# Altium schematic symbol library Carte_Nucleo.SCHLIB: 37 symbols
Pins are listed as number, name and electrical type; pins without a type are passive.

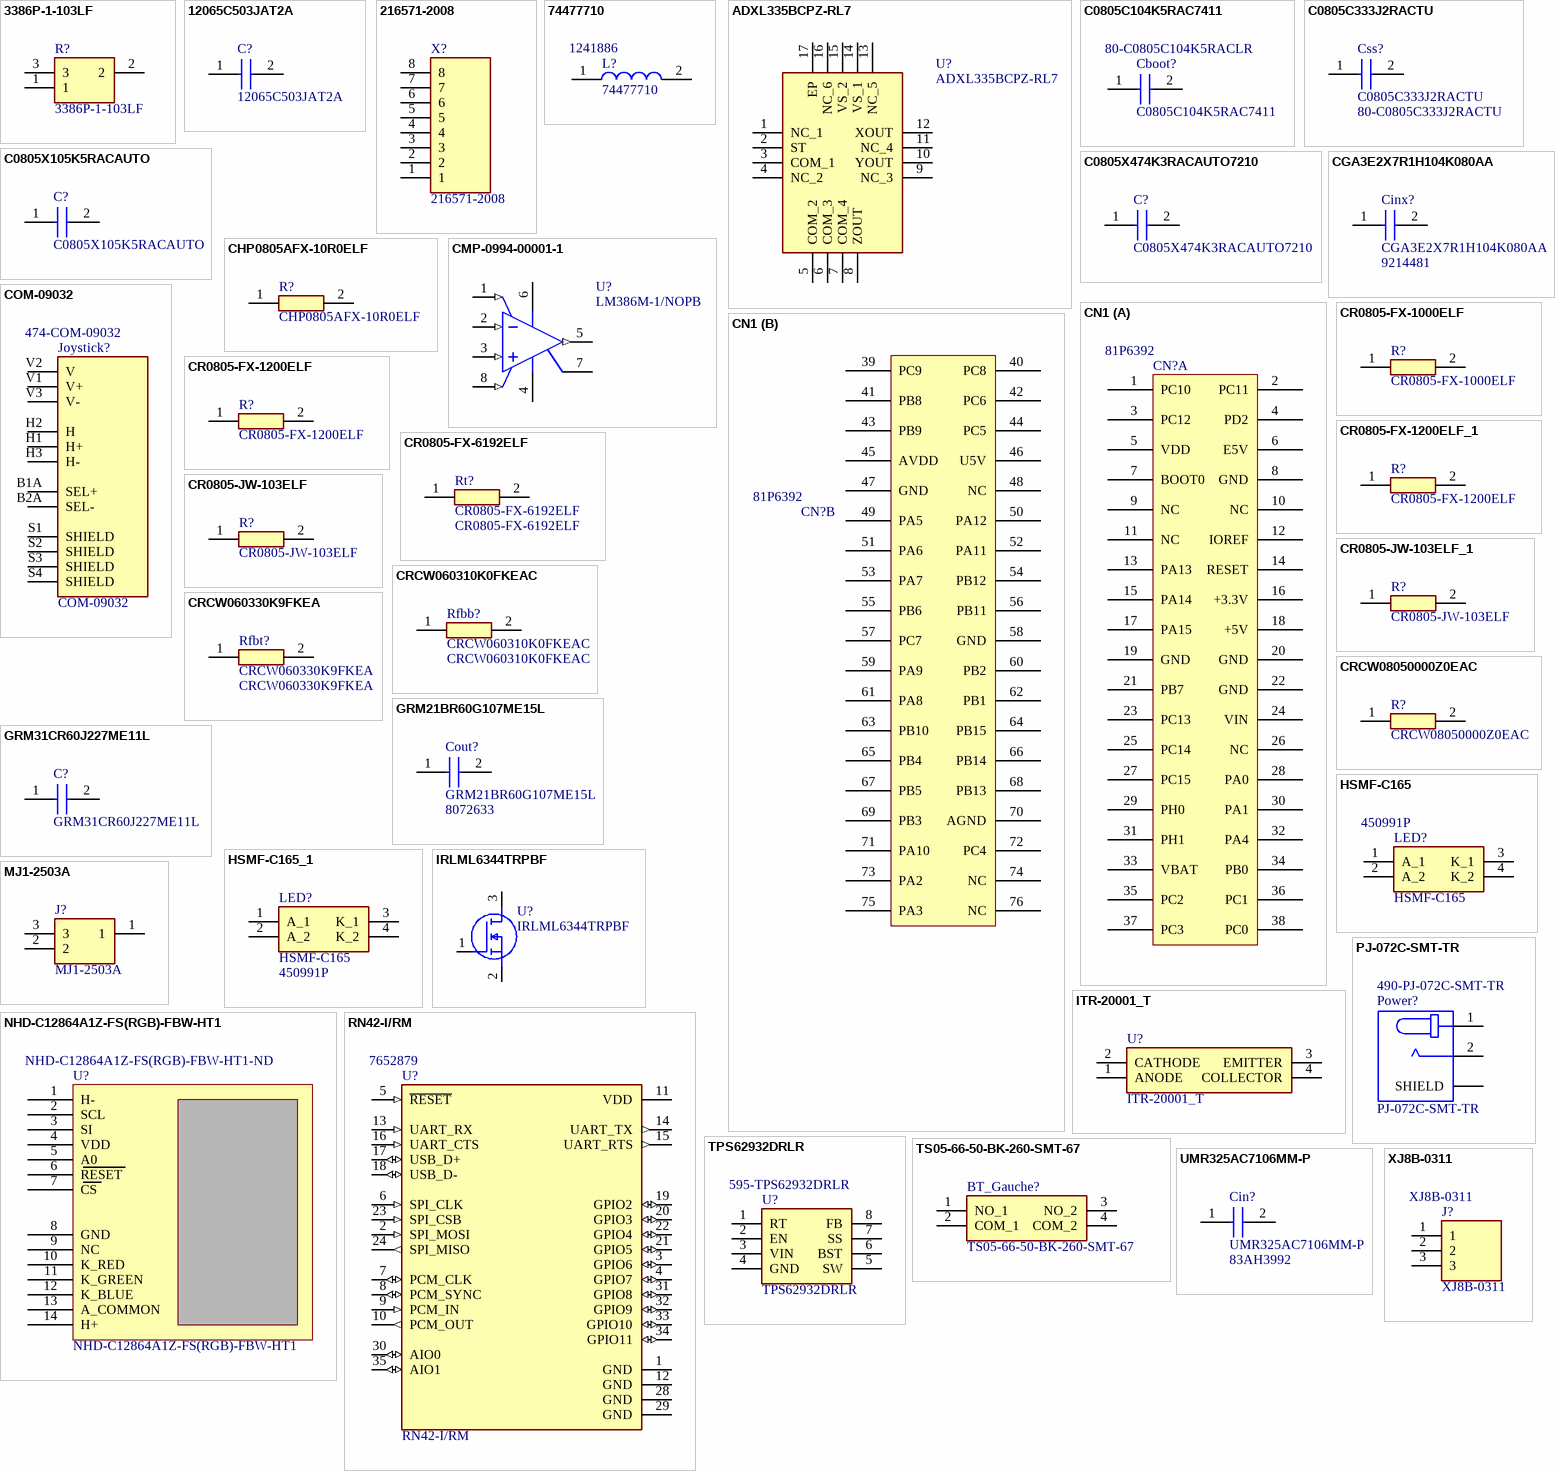
[diagram p0: symbols 3386P-1-103LF to XJ8B-0311]

## 3386P-1-103LF
designator R?
Resistor; Manufacturer_Name: Bourns; Datasheet Link: https://componentsearchengine.com//3386P-1-103LF.pdf; Mouser2 Part Number: 652-3386P-1-103LF; Mouser2 Price/Stock: https://www.mouser.com/Search/Refine.aspx?Keyword=652-3386P-1-103LF; Manufacturer_Part_Number: 3386P-1-103LF
footprint 3386P_1
pins: 1, 2, 3

## 12065C503JAT2A
designator C?
Capacitor; Manufacturer_Name: AVX; Manufacturer_Part_Number: 12065C503JAT2A
footprint CAPC3216X94N
pins: 1 C1, 2 C2

## 216571-2008
designator X?
Connector; Manufacturer_Name: Molex; Datasheet Link: https://www.molex.com/pdm_docs/sd/2165711002_sd.pdf; Height: 9.91mm; Manufacturer_Part_Number: 216571-2008
footprint 216571-YY08
pins: 1, 2, 3, 4, 5, 6, 7, 8

## 74477710
designator L?  Supplier Part Number 1: 1241886
Supplier 1: RSComponents
footprint 74477710
pins: 1, 2

## ADXL335BCPZ-RL7
designator U?
Integrated Circuit; Manufacturer_Name: Analog Devices; Datasheet Link: https://componentsearchengine.com//ADXL335BCPZ-RL7.pdf; Height: 1.5mm; Mouser2 Part Number: 584-ADXL335BCPZ-R7; Mouser2 Price/Stock: https://www.mouser.com/Search/Refine.aspx?Keyword=584-ADXL335BCPZ-R7; Manufacturer_Part_Number: ADXL335BCPZ-RL7
footprint QFN65P400X400X150-17N-D
pins: 1 NC_1, 2 ST, 3 COM_1, 4 NC_2, 5 COM_2, 6 COM_3, 7 COM_4, 8 ZOUT, 9 NC_3, 10 YOUT, 11 NC_4, 12 XOUT, 13 NC_5, 14 VS_1, 15 VS_2, 16 NC_6, 17 EP

## C0805C104K5RAC7411
designator Cboot?  Supplier Part Number 1: 80-C0805C104K5RACLR
Multilayer Ceramic Capacitors MLCC - SMD/SMT 50V 0.1uF X7R 0805 10%; Manufacturer_Name: KEMET; Datasheet Link: https://componentsearchengine.com//C0805C104K5RAC7411.pdf; Height: 0.88mm; Mouser2 Part Number: 80-C0805C104K5RACLR; Mouser2 Price/Stock: https://www.mouser.com/Search/Refine.aspx?Keyword=80-C0805C104K5RACLR; Manufacturer_Part_Number: C0805C104K5RAC7411; Supplier 1: Mouser
footprint CAPC2012X88N
pins: 1, 2

## C0805C333J2RACTU
designator Css?  Supplier Part Number 1: 80-C0805C333J2RACTU
Multilayer Ceramic Capacitors MLCC - SMD/SMT 200V 0.033uF X7R 0805 5%; Manufacturer_Name: KEMET; Datasheet Link: https://content.kemet.com/datasheets/KEM_C1002_X7R_SMD.pdf; Height: 1.1mm; Manufacturer_Part_Number: C0805C333J2RACTU; Supplier 1: Mouser
footprint C0805
pins: 1, 2

## C0805X105K5RACAUTO
designator C?
Capacitor; Manufacturer_Name: KEMET; Datasheet Link: https://connect.kemet.com:7667/gateway/IntelliData-ComponentDocumentation/1.0/download/specsheet/C0805X105K5RACAUTO; Height: 1.45mm; Manufacturer_Part_Number: C0805X105K5RACAUTO
footprint CAPC2012X145N
pins: 1, 2

## C0805X474K3RACAUTO7210
designator C?
Capacitor; Manufacturer_Name: KEMET; Datasheet Link: https://content.kemet.com/datasheets/KEM_C1078_X7R_FT-CAP_AUTO_SMD.pdf; Height: 1.1mm; Manufacturer_Part_Number: C0805X474K3RACAUTO7210
footprint C0805
pins: 1, 2

## CGA3E2X7R1H104K080AA
designator Cinx?  Supplier Part Number 1: 9214481
Capacitor 0603 100nF; Manufacturer_Name: TDK; Datasheet Link: https://componentsearchengine.com//CGA3E2X7R1H104K080AA.pdf; Height: 0.9mm; Mouser2 Part Number: 810-CGA3E2X7R1H104K; Mouser2 Price/Stock: https://www.mouser.com/Search/Refine.aspx?Keyword=810-CGA3E2X7R1H104K; Manufacturer_Part_Number: CGA3E2X7R1H104K080AA; Supplier 1: RSComponents
footprint CAPC1608X90N
pins: 1, 2

## CHP0805AFX-10R0ELF
designator R?
Resistor; Manufacturer_Name: Bourns; Datasheet Link: https://www.mouser.co.uk/datasheet/2/54/chp-a-1858677.pdf; Height: 0.6mm; Manufacturer_Part_Number: CHP0805AFX-10R0ELF
footprint RESC2012X60N
pins: 1, 2

## CMP-0994-00001-1
designator U?, comment LM386M-1/NOPB
Low Voltage Audio Power Amplifier, 0 to 70 degC, 8-pin SOIC (D8), Green (RoHS & no Sb/Br); Manufacturer: Texas Instruments; Manufacturer: TI National Semiconductor; Input Type: Analog; SubFamily: Mid/High-Power Amplifier; Max. Number of Speaker Outputs: 1; PackageVersion: 4040047-3/M, 06/2011; ComponentLink2Description: Datasheet; DatasheetVersion: SNAS545A; ComponentLink3URL: http://www.ti.com/litv/pdf/msoi002j; ComponentLink1URL: http://www.ti.com/; Mounting Technology: Surface Mount; Eco-Plan: Green (RoHS & no Sb/Br); ComponentLink3Description: Package Specification; ComponentLink2URL: http://www.ti.com/general/docs/lit/getliterature.tsp?genericPartNumber=LM386&fileType=pdf; PartNumber: LM386M-1/NOPB; PackageDescription: 8-Pin Plastic Small Outline, Body 4.9 x 3.9 mm, Pitch 1.27 mm; ComponentLink1Description: Manufacturer URL; Code_JEDEC: MS-012; PackageReference: D8; Manufacturer Part Number: LM386M-1/NOPB
footprint TI-D8_M (SOIC, 8-Leads, Body 5x4mm, Pitch 1.27mm, IPC Low Density)
footprint TI-D8_N (SOIC, 8-Leads, Body 5x4mm, Pitch 1.27mm, IPC Medium Density)
footprint TI-D8_L (SOIC, 8-Leads, Body 5x4mm, Pitch 1.27mm, IPC High Density)
pins: 1 GAIN (in), 2 IN- (in), 3 IN+ (in), 4 GND (power), 5 VOUT (out), 6 VS (power), 7 BYPASS, 8 GAIN (in)

## CN1
designator CN?  Supplier Part Number 1: 81P6392
Headers & Wire Housings Surface Mount PCB Socket Strips, 0.100 pitch; Supplier 1: Newark
footprint Nucleo-conn-SMD - sans 3D (Interface Nucleo morpho connectors)
part A pins: 1 PC10, 2 PC11, 3 PC12, 4 PD2, 5 VDD, 6 E5V, 7 BOOT0, 8 GND, 9 NC, 10 NC, 11 NC, 12 IOREF, 13 PA13, 14 RESET, 15 PA14, 16 +3.3V, 17 PA15, 18 +5V, 19 GND, 20 GND, 21 PB7, 22 GND, 23 PC13, 24 VIN, 25 PC14, 26 NC, 27 PC15, 28 PA0, 29 PH0, 30 PA1, 31 PH1, 32 PA4, 33 VBAT, 34 PB0, 35 PC2, 36 PC1, 37 PC3, 38 PC0
part B pins: 39 PC9, 40 PC8, 41 PB8, 42 PC6, 43 PB9, 44 PC5, 45 AVDD, 46 U5V, 47 GND, 48 NC, 49 PA5, 50 PA12, 51 PA6, 52 PA11, 53 PA7, 54 PB12, 55 PB6, 56 PB11, 57 PC7, 58 GND, 59 PA9, 60 PB2, 61 PA8, 62 PB1, 63 PB10, 64 PB15, 65 PB4, 66 PB14, 67 PB5, 68 PB13, 69 PB3, 70 AGND, 71 PA10, 72 PC4, 73 PA2, 74 NC, 75 PA3, 76 NC

## COM-09032
designator Joystick?  Supplier Part Number 1: 474-COM-09032
Thumb Joystick; Price: None; Package: None; Availability: Unavailable; MP: COM-09032; Value: *; Supplier 1: Mouser
footprint XDCR_COM-09032
pins: B1A SEL+, B2A SEL-, H1 H+, H2 H, H3 H-, S1 SHIELD, S2 SHIELD, S3 SHIELD, S4 SHIELD, V1 V+, V2 V, V3 V-

## CR0805-FX-1000ELF
designator R?
Resistor; Manufacturer_Name: Bourns; Datasheet Link: https://www.bourns.com/pdfs/chpreztr.pdf; Height: 0.6mm; Manufacturer_Part_Number: CR0805-FX-1000ELF
footprint RESC2012X60N
pins: 1, 2

## CR0805-FX-1200ELF
designator R?
Res Thick Film 0805 120 Ohm 1% 1/8W ±100ppm/°C Molded SMD SMD Paper Tape on Plastic Reel; Datasheet Link: https://www.bourns.com/pdfs/chpreztr.pdf; Height: 0.6mm; Supplier 1: Arrow Electronics; Supplier Part Number 1: CR0805-FX-1200ELF
footprint RESC2012X60N
pins: 1, 2

## CR0805-FX-1200ELF_1
designator R?, comment CR0805-FX-1200ELF
Resistor; Manufacturer_Name: Bourns; Datasheet Link: https://www.bourns.com/pdfs/chpreztr.pdf; Height: 0.6mm; Manufacturer_Part_Number: CR0805-FX-1200ELF
footprint RESC2012X60N
pins: 1, 2

## CR0805-FX-6192ELF
designator Rt?
Resistor 0805 61.9kOhm; Manufacturer_Name: Bourns; Datasheet Link: https://www.bourns.com/pdfs/chpreztr.pdf; Height: 0.6mm; Manufacturer_Part_Number: CR0805-FX-6192ELF; Supplier 1: Avnet; Supplier Part Number 1: CR0805-FX-6192ELF
footprint RESC2012X60N
pins: 1, 2

## CR0805-JW-103ELF
designator R?
BOURNS         CR0805-JW-103ELF            Surface Mount Chip Resistor, Thick Film, CR Series, 10 kohm, 125 mW,  5%, 150 V; Datasheet Link: https://componentsearchengine.com//CR0805-JW-103ELF.pdf; Height: 0.6mm; Supplier 1: Arrow Electronics; Supplier Part Number 1: CR0805-JW-103ELF
footprint RESC2012X60N
pins: 1, 2

## CR0805-JW-103ELF_1
designator R?, comment CR0805-JW-103ELF
Resistor; Manufacturer_Name: Bourns; Datasheet Link: https://componentsearchengine.com//CR0805-JW-103ELF.pdf; Height: 0.6mm; Mouser2 Part Number: 652-CR0805-JW-103ELF; Mouser2 Price/Stock: https://www.mouser.com/Search/Refine.aspx?Keyword=652-CR0805-JW-103ELF; Manufacturer_Part_Number: CR0805-JW-103ELF
footprint RESC2012X60N
pins: 1, 2

## CRCW060310K0FKEAC
designator Rfbb?
Res Thick Film 0603 10K Ohm 1% 1/10W ±100ppm/°C Molded SMD Paper T/R; Manufacturer_Name: Vishay; Datasheet Link: https://componentsearchengine.com//CRCW060310K0FKEAC.pdf; Height: 0.55mm; Mouser2 Part Number: 71-CRCW060310K0FKEAC; Mouser2 Price/Stock: https://www.mouser.com/Search/Refine.aspx?Keyword=71-CRCW060310K0FKEAC; Manufacturer_Part_Number: CRCW060310K0FKEAC; Supplier 1: Arrow Electronics; Supplier Part Number 1: CRCW060310K0FKEAC
footprint RESC1608X55N
pins: 1, 2

## CRCW060330K9FKEA
designator Rfbt?
Res Thick Film 0603 30.9K Ohm 1% 1/10W ±100ppm/°C Molded SMD SMD Paper T/R; Manufacturer_Name: Vishay; Datasheet Link: http://www.vishay.com/docs/20035/dcrcwe3.pdf; Height: 0.5mm; Manufacturer_Part_Number: CRCW060330K9FKEA; Supplier 1: Arrow Electronics; Supplier Part Number 1: CRCW060330K9FKEA
footprint RESC1608X50N
pins: 1, 2

## CRCW08050000Z0EAC
designator R?
Resistor; Manufacturer_Name: Vishay; Datasheet Link: https://componentsearchengine.com//CRCW08050000Z0EAC.pdf; Height: 0.6mm; Mouser2 Part Number: 71-CRCW08050000Z0EAC; Mouser2 Price/Stock: https://www.mouser.com/Search/Refine.aspx?Keyword=71-CRCW08050000Z0EAC; Manufacturer_Part_Number: CRCW08050000Z0EAC
footprint RESC2012X60N
pins: 1, 2

## GRM21BR60G107ME15L
designator Cout?  Supplier Part Number 1: 8072633
0805 100 uF 4 V ±20% Tolerance X5R Multilayer Ceramic Chip Capacitor; Manufacturer_Name: Murata Electronics; Datasheet Link: https://datasheet.datasheetarchive.com/originals/distributors/DKDS-10/192999.pdf; Height: 1.45mm; Manufacturer_Part_Number: GRM21BR60G107ME15L; Supplier 1: Future Electronics
footprint CAPC2012X145N
pins: 1, 2

## GRM31CR60J227ME11L
designator C?
Capacitor; Manufacturer_Name: Murata Electronics; Datasheet Link: https://www.murata.com/products/productdetail?partno=GRM31CR60J227ME11%23; Height: 1.9mm; Manufacturer_Part_Number: GRM31CR60J227ME11L
footprint CAPC3216X190N
pins: 1, 2

## HSMF-C165
designator LED?  Supplier Part Number 1: 450991P
Standard LEDs - SMD Grn/Red Bi-Color; Manufacturer_Name: Avago Technologies; Datasheet Link: https://componentsearchengine.com//HSMF-C165.pdf; Mouser2 Part Number: 630-HSMF-C165; Mouser2 Price/Stock: https://www.mouser.com/Search/Refine.aspx?Keyword=630-HSMF-C165; Manufacturer_Part_Number: HSMF-C165; Supplier 1: RSComponents
footprint HSMF-C163
pins: 1 A_1, 2 A_2, 3 K_1, 4 K_2

## HSMF-C165_1
designator LED?, comment HSMF-C165  Supplier Part Number 1: 450991P
LED Bi-Color Green/Red 570nm/636nm 4-Pin Chip 0603 T/R; Manufacturer_Name: Avago Technologies; Datasheet Link: https://componentsearchengine.com//HSMF-C165.pdf; Mouser2 Part Number: 630-HSMF-C165; Mouser2 Price/Stock: https://www.mouser.com/Search/Refine.aspx?Keyword=630-HSMF-C165; Manufacturer_Part_Number: HSMF-C165; Supplier 1: RSComponents
footprint HSMF-C163
pins: 1 A_1, 2 A_2, 3 K_1, 4 K_2

## IRLML6344TRPBF
designator U?
MOSFET (N-Channel); Manufacturer_Name: Infineon; Datasheet Link: https://componentsearchengine.com//IRLML6344TRPBF.pdf; Height: 1.12mm; Mouser2 Part Number: 942-IRLML6344TRPBF; Mouser2 Price/Stock: https://www.mouser.com/Search/Refine.aspx?Keyword=942-IRLML6344TRPBF; Manufacturer_Part_Number: IRLML6344TRPBF
footprint SOT95P237X112-3N
pins: 1 G, 2 S, 3 D

## ITR-20001_T
designator U?
Undefined or Miscellaneous; Manufacturer_Name: Everlight; Manufacturer_Part_Number: ITR-20001/T; Height: 6.8mm
footprint ITR20001T
pins: 1 ANODE, 2 CATHODE, 3 EMITTER, 4 COLLECTOR

## MJ1-2503A
designator J?
Connector; Manufacturer_Name: CUI Inc.; Datasheet Link: https://componentsearchengine.com//MJ1-2503A.pdf; Height: 5mm; Mouser2 Part Number: 490-MJ1-2503A; Mouser2 Price/Stock: https://www.mouser.com/Search/Refine.aspx?Keyword=490-MJ1-2503A; Manufacturer_Part_Number: MJ1-2503A
footprint MJ12503A
pins: 1, 2, 3

## NHD-C12864A1Z-FS(RGB)-FBW-HT1
designator U?  Supplier Part Number 1: NHD-C12864A1Z-FS(RGB)-FBW-HT1-ND
LCD COG GRAPH 128X64 RGB BKLT; Supplier 1: Digi-Key
footprint NHD-C12864A1Z-FS(RGB)-FBW-HT1
pins: 1 H-, 2 SCL, 3 SI, 4 VDD, 5 A0, 6 RESET, 7 CS, 8 GND, 9 NC, 10 K_RED, 11 K_GREEN, 12 K_BLUE, 13 A_COMMON, 14 H+

## PJ-072C-SMT-TR
designator Power?  Supplier Part Number 1: 490-PJ-072C-SMT-TR
1.0 x 3.6 mm, 2.0 A, Horizontal, Surface Mount (SMT), Shielded, Dc Power Jack Connector; Supplier 1: Mouser
footprint PJ-072C-SMT-TR
pins: 1, 2, 3 SHIELD, 4 SHIELD

## RN42-I/RM
designator U?  Supplier Part Number 1: 7652879
Bluetooth Bluetooth v2.1 +EDR, Class 2 Transceiver Module 2.4GHz Integrated, Trace Surface Mount; MF: Microchip; Value: *; Price: None; MP: RN42-I/RM; Availability: Unavailable; SnapEDA_Link: https://www.snapeda.com/parts/RN42-I/RM/Microchip/view-part/625546/?ref=snap; Package: SMD-35 Roving Networks; Supplier 1: RSComponents
footprint XCVR_RN42-I/RM
pins: 1 GND (power), 2 SPI_MOSI (in), 3 GPIO6 (io), 4 GPIO7 (io), 5 ~{RESET} (in), 6 SPI_CLK (in), 7 PCM_CLK (io), 8 PCM_SYNC (io), 9 PCM_IN (in), 10 PCM_OUT (out), 11 VDD (power), 12 GND (power), 13 UART_RX (in), 14 UART_TX (out), 15 UART_RTS (out), 16 UART_CTS (in), 17 USB_D+ (io), 18 USB_D- (io), 19 GPIO2 (io), 20 GPIO3 (io), 21 GPIO5 (io), 22 GPIO4 (io), 23 SPI_CSB (in), 24 SPI_MISO (out), 28 GND (power), 29 GND (power), 30 AIO0 (io), 31 GPIO8 (io), 32 GPIO9 (io), 33 GPIO10 (io), 34 GPIO11 (io), 35 AIO1 (io)

## TPS62932DRLR
designator U?  Supplier Part Number 1: 595-TPS62932DRLR
3.8-V to 30-V input, 2-A, 200-kHz to 2.2-MHz, low-IQ synchronous buck converter in SOT-583 package; Manufacturer_Name: Texas Instruments; Datasheet Link: https://www.ti.com/lit/gpn/tps62932; Height: 0.6mm; Manufacturer_Part_Number: TPS62932DRLR; Supplier 1: Mouser
footprint TPS62932DRLR
pins: 1 RT, 2 EN, 3 VIN, 4 GND, 5 SW, 6 BST, 7 SS, 8 FB

## TS05-66-50-BK-260-SMT-67
designator BT_Gauche?
6 x 6 mm, 4.3 ~ 8 mm Actuator Height, 100 ~ 260 gf, Surface Mount, IP67, SPST, Tactile Switch; Datasheet Link: https://www.cuidevices.com/product/resource/ts05.pdf; Height: 5.2mm; Supplier 1: Mouser; Supplier Part Number 1: 179-TS056650260SMT67
footprint TS056650BK260SMT67
pins: 1 NO_1, 2 COM_1, 3 NO_2, 4 COM_2

## UMR325AC7106MM-P
designator Cin?  Supplier Part Number 1: 83AH3992
Capacitor 1210 50V 10uF +-20%; Manufacturer_Name: TAIYO YUDEN; Height: 2.8mm; Manufacturer_Part_Number: UMR325AC7106MM-P; Supplier 1: Newark
footprint CAPC3225X280N
pins: 1, 2

## XJ8B-0311
designator J?
Conn Unshrouded Header PL 3 POS 2.54mm Solder ST Top Entry Thru-Hole; Manufacturer_Name: Omron Electronics; Datasheet Link: https://www.omron.com/ecb/products/pdf/en-xj8.pdf; Height: 5.8mm; Manufacturer_Part_Number: XJ8B-0311; Supplier 1: Arrow Electronics; Supplier Part Number 1: XJ8B-0311
footprint HDRV3W64P0X254_1X3_760X250X580P
pins: 1, 2, 3